# EAGLE library part TPIC6C596 (library SteMarie)
TPIC6C596 Power Logic 8-Bit Shift Register The TPIC6C596 is a monolithic, medium-voltage, low-current power 8-bit shift register designed for use in systems that require relatively moderate load power such as LEDs. The device contains a built-in voltage clamp on the outputs for inductive transient protection. Power driver applications include relays, solenoids, and other low-current or medium-voltage loads. This device contains an 8-bit serial-in, parallel-out shift register that feeds an 8-bit D-type storage register. Data transfers through both the shift and storage registers on the rising edge of the shift register clock (SRCK) and the register clock (RCK), respectively. The storage register transfers data to the output buffer when shift register clear (CLR) is high. When CLR is low, all registers in the device are cleared. When output enable (G) is held high, all data in the output buffers is held low and all drain outputs are off. When G is held low, data from the storage register is transparent to the output buffers. When data in the output buffers is low, the DMOS transistor outputs are off. When data is high, the DMOS transistor outputs have sink-current capability. The serial output (SER OUT) is clocked out of the device on the falling edge of SRCK to provide additional hold time for cascaded applications. This will provide improved performance for applications where clock signals may be skewed, devices are not located near one another, or the system must tolerate electromagnetic interference. Outputs are low-side, open-drain DMOS transistors with output ratings of 33 V and 100 mA continuous sink-current capability. Each output provides a 250-mA maximum current limit at TC = 25°C. The current limit decreases as the junction temperature increases for additional device protection. The device also provides up to 2500 V of ESD protection when tested using the human-body model and the 200-V machine model. The TPIC6C596 is characterized for operation over the operating case temperature range of -40°C to 125°C.
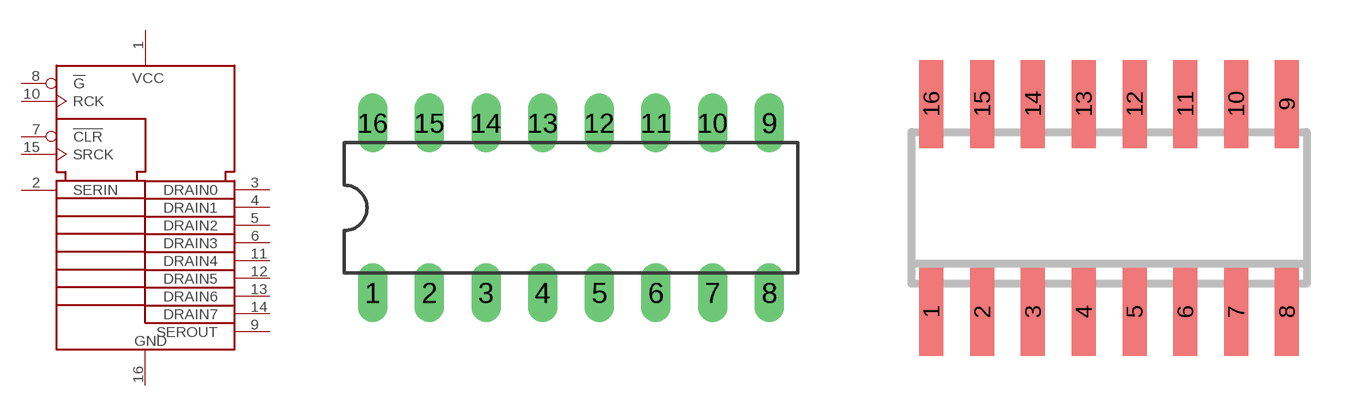
[diagram p14: symbol with the pads of DIL16; footprints DIL16, SO16]

Designator prefix IC

## TPIC6C596N  [DIL16]
1  VCC  pwr
2  SERIN  in
3  DRAIN0  oc
4  DRAIN1  oc
5  DRAIN2  oc
6  DRAIN3  oc
7  !CLR  in
8  !G  in
9  SEROUT  out
10  RCK  in
11  DRAIN4  oc
12  DRAIN5  oc
13  DRAIN6  oc
14  DRAIN7  oc
15  SRCK  in
16  GND  pwr

## TPIC6C596D  [SO16]
Pads as for DIL16

## TPIC6C596PW  [TSSOP16]
Pads as for DIL16

## Footprint DIL16 (pad centres in mm)
Dual In Line Package
drill 0.813 long: 1 -8.89,-3.81; 2 -6.35,-3.81; 3 -3.81,-3.81; 4 -1.27,-3.81; 5 1.27,-3.81; 6 3.81,-3.81; 7 6.35,-3.81; 8 8.89,-3.81; 9 8.89,3.81; 10 6.35,3.81; 11 3.81,3.81; 12 1.27,3.81; 13 -1.27,3.81; 14 -3.81,3.81; 15 -6.35,3.81; 16 -8.89,3.81

## Footprint SO16 (pad centres in mm)
SMALL OUTLINE INTEGRATED CIRCUIT body 3.9 mm/JEDEC MS-012AC
smd 0.6 x 2.2: 1 -4.445,-2.6; 2 -3.175,-2.6; 3 -1.905,-2.6; 4 -0.635,-2.6; 5 0.635,-2.6; 6 1.905,-2.6; 7 3.175,-2.6; 8 4.445,-2.6; 9 4.445,2.6; 10 3.175,2.6; 11 1.905,2.6; 12 0.635,2.6; 13 -0.635,2.6; 14 -1.905,2.6; 15 -3.175,2.6; 16 -4.445,2.6

## Footprint TSSOP16 (pad centres in mm)
Thin Shrink Small Outline Plastic 16 MAX3223-MAX3243.pdf
smd 0.305 x 0.991: 1 -2.275,-2.918; 2 -1.625,-2.918; 3 -0.975,-2.918; 4 -0.325,-2.918; 5 0.325,-2.918; 6 0.975,-2.918; 7 1.625,-2.918; 8 2.275,-2.918; 9 2.275,2.918; 10 1.625,2.918; 11 0.975,2.918; 12 0.325,2.918; 13 -0.325,2.918; 14 -0.975,2.918; 15 -1.625,2.918; 16 -2.275,2.918